# Altium schematic symbol library capacitors.schlib: 26 symbols
Pins are listed as number, name and electrical type; pins without a type are passive.

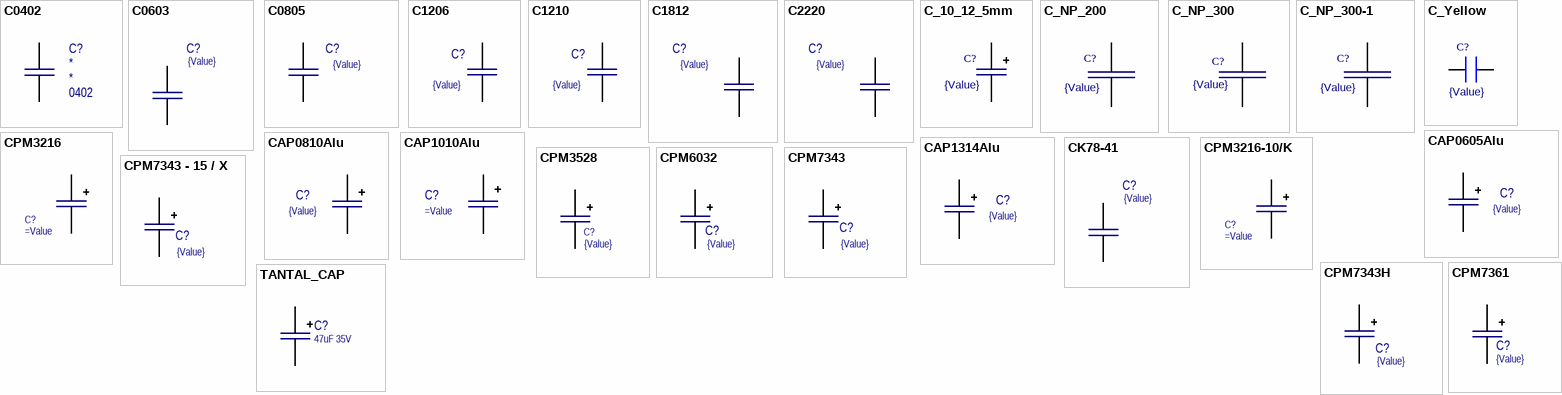
[diagram p0: symbols C0402 to TANTAL_CAP]

## C0402
designator C?  Case/Package: 0402  (hidden comment: C0402)
Capacitor; Alternative Part: *; Part: *; Tolerance: *; Value: *
footprint C_0402
pins: 1, 2

## C0603
designator C?, comment {Value}
Capacitor; Value: {Value}
footprint C_0603 (Chip Capacitor; Body 1.6 x 0.8 mm (LxW typ))
pins: 1, 2

## C0805
designator C?, comment {Value}
Capacitor; Value: {Value}
footprint C_0805
pins: 1, 2

## C1206
designator C?, comment {Value}
Capacitor; Value: {Value}
footprint C_1206
pins: 1, 2

## C1210
designator C?, comment {Value}
Capacitor; Value: {Value}
footprint C_1210
pins: 1, 2

## C1812
designator C?, comment {Value}
Capacitor; Value: {Value}
footprint C_1812
pins: 1, 2

## C2220
designator C?, comment {Value}
Capacitor; Value: {Value}
footprint C_2220
pins: 1, 2

## C_10_12_5mm
designator C?, comment {Value}
Capacitor; Value: {Value}
footprint CAP470X25V
pins: 1, 2

## C_NP_200
designator C?  value {Value}  (hidden comment: C_NP_200)
footprint Cap_HV 5
pins: 1, 2

## C_NP_300
designator C?  value {Value}  (hidden comment: C_NP_300)
footprint Cap_HV 10
pins: 1, 2

## C_NP_300-1
designator C?  value {Value}  (hidden comment: C_NP_300-1)
C_NP_300_NORM
footprint Cap_HV 3kV norm
pins: 1, 2

## C_Yellow
designator C?, comment {Value}
Funny yellow capacitor distributed with transformer; Value: {Value}
footprint Cap_yellow
pins: 0, 1

## CAP0605Alu
designator C?, comment {Value}
Capacitor; Value: {Value}
footprint Cap 0605 D (Aluminum SMT 8.6x8.6x10mm cap)
pins: 1, 2

## CAP0810Alu
designator C?, comment {Value}
Capacitor; Value: {Value}
footprint Cap 0810 F (Aluminum SMT 8.6x8.6x10mm cap)
pins: 1, 2

## CAP1010Alu
designator C?
Capacitor
footprint CAP 1010 G
pins: 1, 2

## CAP1314Alu
designator C?, comment {Value}
Capacitor (H13); Value: {Value}
footprint Al_1314(H13)
pins: 1, 2

## CK78-41
designator C?, comment {Value}
Capacitor; Part: *; Value: {Value}
footprint C_K78-41 (Capacitor)
pins: 1, 2

## CPM3216
designator C?
Capasitor (A)
footprint CPM3216
pins: 1, 2

## CPM3216-10/K
designator C?
Capasitor
footprint CPM3216 - 10 / K
pins: 1, 2

## CPM3528
designator C?, comment {Value}
Capacitor (B); Value: {Value}
footprint CPM3528
pins: 1, 2

## CPM6032
designator C?, comment {Value}
Capacitor (C); Value: {Value}
footprint CPM6032
pins: 1, 2

## CPM7343
designator C?, comment {Value}
Capacitor; Value: {Value}
footprint CPM7343
footprint CPM7343 - 43 (E)
pins: 1, 2

## CPM7343 - 15 / X
designator C?, comment {Value}
Capacitor; Value: {Value}
footprint CPM7343 - 15 / X
pins: 1, 2

## CPM7343H
designator C?, comment {Value}
Capacitor; Value: {Value}
footprint CPM7343
pins: 1, 2

## CPM7361
designator C?, comment {Value}
Capasitor
footprint CPM7361
pins: 1, 2

## TANTAL_CAP
designator C?, comment 47uF 35V
Tantal Capacitor; Part: T491X476K035AT; Alternative Part: -; Value: 47uF 35V
footprint TANTAL_TYPE_A
footprint TANTAL_TYPE_B
footprint TANTAL_TYPE_C
footprint TANTAL_TYPE_D
footprint TANTAL_TYPE_X
pins: 1, 2